# Altium integrated library N-Channel Dual FET Array.IntLib: 27 symbols
Pins are listed as number, name and electrical type; pins without a type are passive.

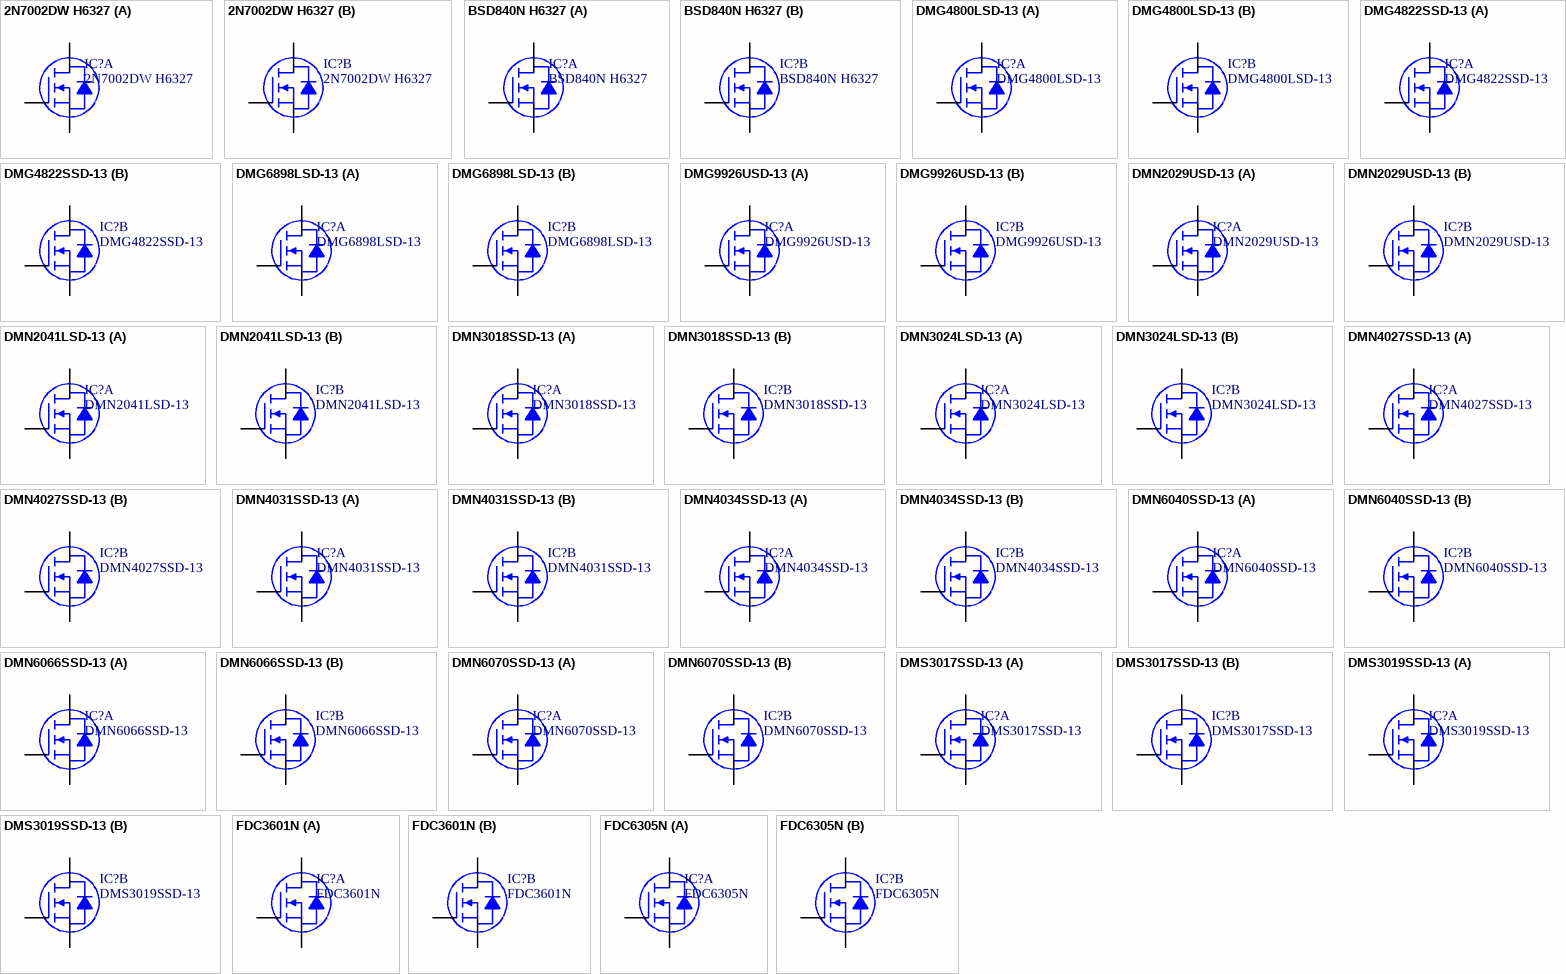
[diagram p0: symbols 2N7002DW H6327 to FDC6305N]

## 2N7002DW H6327
designator IC?
MOSFET 2N-CH 60V 0.3A SOT363; Manufacturer: Infineon Technologies; Rds On (Max) at Id, Vgs: 3 Ohm @ 500mA, 10V; Vgs(th) (Max) at Id: 2.5V @ 250uA; Gate Charge (Qg): 0.6nC @ 10V; Input Capacitance (Ciss) at Vds: 20pF @ 25V; Power - Max: 500mW; Current Continuous Drain: 300mA; Part Number: 2N7002DW H6327; PartId: 8156; Supplier 1: Digi-Key; Supplier Part Number 1: 2N7002DW H6327TR-ND; ComponentLink1Description: Datasheet; ComponentLink1URL: http://www.infineon.com/dgdl/2N7002DW_Rev2.2_.pdf?folderId=db3a3043156fd573011622e10b5c1f67&fileId=db3a30431a5c32f2011ad94ed41363f2; ComponentLink2Description: Digi-Key Listing; ComponentLink2URL: http://www.digikey.com/product-detail/en/2N7002DW%20H6327/2N7002DW%20H6327TR-ND/2783408; Price: 0.0519; Type: 2 N-Channel (Dual); Device Package: 6-VSSOP, SC-88, SOT-363; Drain to Source Voltage (Vdss): 60V; Features: Logic Level Gate
footprint INFINEON SOT-363
part A pins: 1 S1, 2 G1, 6 D1
part B pins: 3 D2, 4 S2, 5 G2

## BSD840N H6327
designator IC?
MOSFET 2N-CH 20V 0.88A SOT363; Manufacturer: Infineon Technologies; Rds On (Max) at Id, Vgs: 400 mOhm @ 880mA, 2.5V; Vgs(th) (Max) at Id: 750mV @ 1.6uA; Gate Charge (Qg): 0.26nC @ 2.5V; Input Capacitance (Ciss) at Vds: 78pF @ 10V; Power - Max: 500mW; Current Continuous Drain: 880mA; Part Number: BSD840N H6327; PartId: 8157; Supplier 1: Digi-Key; Supplier Part Number 1: BSD840N H6327TR-ND; ComponentLink1Description: Datasheet; ComponentLink1URL: http://www.infineon.com/dgdl/BSD840N_Rev2.3_.pdf?folderId=db3a3043156fd573011622e10b5c1f67&fileId=db3a30431b0626df011b12b4486c7c02; ComponentLink2Description: Digi-Key Listing; ComponentLink2URL: http://www.digikey.com/product-detail/en/BSD840N%20H6327/BSD840N%20H6327TR-ND/2783455; Price: 0.0712; Type: 2 N-Channel (Dual); Device Package: 6-VSSOP, SC-88, SOT-363; Drain to Source Voltage (Vdss): 20V; Features: Logic Level Gate
footprint INFINEON SOT-363
part A pins: 1 S1, 2 G1, 6 D1
part B pins: 3 D2, 4 S2, 5 G2

## DMG4800LSD-13
designator IC?
MOSFET 2N-CH 30V 7.5A 8SO; Manufacturer: Diodes Incorporated; Rds On (Max) at Id, Vgs: 16 mOhm @ 9A, 10V; Vgs(th) (Max) at Id: 1.6V @ 250uA; Gate Charge (Qg): 8.56nC @ 5V; Input Capacitance (Ciss) at Vds: 798pF @ 10V; Power - Max: 1.17W; Part Number: DMG4800LSD-13; PartId: 8142; Supplier 1: Digi-Key; Supplier Part Number 1: DMG4800LSD-13DITR-ND; ComponentLink1Description: Datasheet; ComponentLink1URL: http://www.diodes.com/_files/datasheets/ds31858.pdf; ComponentLink2Description: Digi-Key Listing; ComponentLink2URL: http://www.digikey.com/product-detail/en/DMG4800LSD-13/DMG4800LSD-13DITR-ND/2183250; Price: 0.186; Type: 2 N-Channel (Dual); Device Package: 8-SOIC (0.154", 3.90mm Width); Drain to Source Voltage (Vdss): 30V; Features: Logic Level Gate; Current Continuous Drain: 7.5A
footprint DIODES SO-8
part A pins: 1 S1, 2 G1, 7 D1, 8 D1
part B pins: 3 S2, 4 G2, 5 D2, 6 D2

## DMG4822SSD-13
designator IC?
MOSFET 2N-CH 30V 10A 8SO; Manufacturer: Diodes Incorporated; Rds On (Max) at Id, Vgs: 20 mOhm @ 8.5A, 10V; Vgs(th) (Max) at Id: 3V @ 250uA; Gate Charge (Qg): 10.5nC @ 10V; Input Capacitance (Ciss) at Vds: 478.9pF @ 16V; Power - Max: 1.42W; Part Number: DMG4822SSD-13; PartId: 8148; Supplier 1: Digi-Key; Supplier Part Number 1: DMG4822SSD-13DITR-ND; ComponentLink1Description: Datasheet; ComponentLink1URL: http://www.diodes.com/_files/datasheets/DMG4822SSD.pdf; ComponentLink2Description: Digi-Key Listing; ComponentLink2URL: http://www.digikey.com/product-detail/en/DMG4822SSD-13/DMG4822SSD-13DITR-ND/2756044; Price: 0.2356; Type: 2 N-Channel (Dual); Device Package: 8-SOIC (0.154", 3.90mm Width); Drain to Source Voltage (Vdss): 30V; Features: Logic Level Gate; Current Continuous Drain: 10A
footprint DIODES SO-8
part A pins: 1 S1, 2 G1, 7 D1, 8 D1
part B pins: 3 S2, 4 G2, 5 D2, 6 D2

## DMG6898LSD-13
designator IC?
MOSFET 2N-CH 20V 9.5A 8SO; Manufacturer: Diodes Incorporated; Rds On (Max) at Id, Vgs: 16 mOhm @ 9.4A, 4.5V; Vgs(th) (Max) at Id: 1.5V @ 250uA; Gate Charge (Qg): 26nC @ 10V; Input Capacitance (Ciss) at Vds: 1149pF @ 10V; Power - Max: 1.28W; Part Number: DMG6898LSD-13; PartId: 8149; Supplier 1: Digi-Key; Supplier Part Number 1: DMG6898LSD-13DITR-ND; ComponentLink1Description: Datasheet; ComponentLink1URL: http://www.diodes.com/_files/datasheets/ds31947.pdf; ComponentLink2Description: Digi-Key Listing; ComponentLink2URL: http://www.digikey.com/product-detail/en/DMG6898LSD-13/DMG6898LSD-13DITR-ND/2355952; Price: 0.261; Type: 2 N-Channel (Dual); Device Package: 8-SOIC (0.154", 3.90mm Width); Drain to Source Voltage (Vdss): 20V; Features: Logic Level Gate; Current Continuous Drain: 9.5A
footprint DIODES SO-8
part A pins: 1 S1, 2 G1, 7 D1, 8 D1
part B pins: 3 S2, 4 G2, 5 D2, 6 D2

## DMG9926USD-13
designator IC?
MOSFET 2N-CH 20V 8A SOP8L; Manufacturer: Diodes Incorporated; Rds On (Max) at Id, Vgs: 24 mOhm @ 8.2A, 4.5V; Vgs(th) (Max) at Id: 900mV @ 250uA; Gate Charge (Qg): 8.8nC @ 4.5V; Input Capacitance (Ciss) at Vds: 867pF @ 15V; Power - Max: 1.3W; Part Number: DMG9926USD-13; PartId: 8139; Supplier 1: Digi-Key; Supplier Part Number 1: DMG9926USD-13DITR-ND; ComponentLink1Description: Datasheet; ComponentLink1URL: http://www.diodes.com/_files/datasheets/ds31757.pdf; ComponentLink2Description: Digi-Key Listing; ComponentLink2URL: http://www.digikey.com/product-detail/en/DMG9926USD-13/DMG9926USD-13DITR-ND/2179801; Price: 0.155; Type: 2 N-Channel (Dual); Device Package: 8-SOIC (0.154", 3.90mm Width); Drain to Source Voltage (Vdss): 20V; Features: Logic Level Gate; Current Continuous Drain: 8A
footprint DIODES SO-8
part A pins: 1 S1, 2 G1, 7 D1, 8 D1
part B pins: 3 S2, 4 G2, 5 D2, 6 D2

## DMN2029USD-13
designator IC?
MOSFET 2N-CH 20V 5.8A 8SO; Manufacturer: Diodes Incorporated; Rds On (Max) at Id, Vgs: 25 mOhm @ 6.5A, 4.5V; Vgs(th) (Max) at Id: 1.5V @ 250uA; Gate Charge (Qg): 18.6nC @ 8V; Input Capacitance (Ciss) at Vds: 1171pF @ 10V; Power - Max: 1.2W; Part Number: DMN2029USD-13; PartId: 8137; Supplier 1: Digi-Key; Supplier Part Number 1: DMN2029USD-13DITR-ND; ComponentLink1Description: Datasheet; ComponentLink1URL: http://www.diodes.com/_files/datasheets/DMN2029USD.pdf; ComponentLink2Description: Digi-Key Listing; ComponentLink2URL: http://www.digikey.com/product-detail/en/DMN2029USD-13/DMN2029USD-13DITR-ND/4251609; Price: 0.1443; Type: 2 N-Channel (Dual); Device Package: 8-SOIC (0.154", 3.90mm Width); Drain to Source Voltage (Vdss): 20V; Features: Logic Level Gate; Current Continuous Drain: 5.8A
footprint DIODES SO-8
part A pins: 1 S1, 2 G1, 7 D1, 8 D1
part B pins: 3 S2, 4 G2, 5 D2, 6 D2

## DMN2041LSD-13
designator IC?
MOSFET 2N-CH 20V 7.63A 8SO; Manufacturer: Diodes Incorporated; Rds On (Max) at Id, Vgs: 28 mOhm @ 6A, 4.5V; Vgs(th) (Max) at Id: 1.2V @ 250uA; Gate Charge (Qg): 15.6nC @ 10V; Input Capacitance (Ciss) at Vds: 550pF @ 10V; Power - Max: 1.16W; Part Number: DMN2041LSD-13; PartId: 8140; Supplier 1: Digi-Key; Supplier Part Number 1: DMN2041LSD-13DITR-ND; ComponentLink1Description: Datasheet; ComponentLink1URL: http://www.diodes.com/_files/datasheets/ds31964.pdf; ComponentLink2Description: Digi-Key Listing; ComponentLink2URL: http://www.digikey.com/product-detail/en/DMN2041LSD-13/DMN2041LSD-13DITR-ND/2414255; Price: 0.1705; Type: 2 N-Channel (Dual); Device Package: 8-SOIC (0.154", 3.90mm Width); Drain to Source Voltage (Vdss): 20V; Features: Logic Level Gate; Current Continuous Drain: 7.63A
footprint DIODES SO-8
part A pins: 1 S1, 2 G1, 7 D1, 8 D1
part B pins: 3 S2, 4 G2, 5 D2, 6 D2

## DMN3018SSD-13
designator IC?
MOSFET 2N-CH 30V 6.7A 8SO; Manufacturer: Diodes Incorporated; Rds On (Max) at Id, Vgs: 22 mOhm @ 10A, 10V; Vgs(th) (Max) at Id: 2.1V @ 250uA; Gate Charge (Qg): 13.2nC @ 10V; Input Capacitance (Ciss) at Vds: 697pF @ 15V; Power - Max: 1.5W; Part Number: DMN3018SSD-13; PartId: 8141; Supplier 1: Digi-Key; Supplier Part Number 1: DMN3018SSD-13DITR-ND; ComponentLink1Description: Datasheet; ComponentLink1URL: http://www.diodes.com/_files/datasheets/DMN3018SSD.pdf; ComponentLink2Description: Digi-Key Listing; ComponentLink2URL: http://www.digikey.com/product-detail/en/DMN3018SSD-13/DMN3018SSD-13DITR-ND/3882073; Price: 0.1821; Type: 2 N-Channel (Dual); Device Package: 8-SOIC (0.154", 3.90mm Width); Drain to Source Voltage (Vdss): 30V; Features: Logic Level Gate; Current Continuous Drain: 6.7A
footprint DIODES SO-8
part A pins: 1 S1, 2 G1, 7 D1, 8 D1
part B pins: 3 S2, 4 G2, 5 D2, 6 D2

## DMN3024LSD-13
designator IC?
MOSFET 2N-CH 30V 6.8A 8SO; Manufacturer: Diodes Incorporated; Rds On (Max) at Id, Vgs: 24 mOhm @ 7A, 10V; Vgs(th) (Max) at Id: 3V @ 250uA; Gate Charge (Qg): 12.9nC @ 10V; Input Capacitance (Ciss) at Vds: 608pF @ 15V; Power - Max: 1.8W; Part Number: DMN3024LSD-13; PartId: 8145; Supplier 1: Digi-Key; Supplier Part Number 1: DMN3024LSD-13DITR-ND; ComponentLink1Description: Datasheet; ComponentLink1URL: http://www.diodes.com/_files/datasheets/DMN3024LSD.pdf; ComponentLink2Description: Digi-Key Listing; ComponentLink2URL: http://www.digikey.com/product-detail/en/DMN3024LSD-13/DMN3024LSD-13DITR-ND/2179807; Price: 0.217; Type: 2 N-Channel (Dual); Device Package: 8-SOIC (0.154", 3.90mm Width); Drain to Source Voltage (Vdss): 30V; Features: Logic Level Gate; Current Continuous Drain: 6.8A
footprint DIODES SO-8
part A pins: 1 S1, 2 G1, 7 D1, 8 D1
part B pins: 3 S2, 4 G2, 5 D2, 6 D2

## DMN4027SSD-13
designator IC?
MOSFET 2N-CH 40V 5.4A 8SO; Manufacturer: Diodes Incorporated; Rds On (Max) at Id, Vgs: 27 mOhm @ 7A, 10V; Vgs(th) (Max) at Id: 3V @ 250uA; Gate Charge (Qg): 12.9nC @ 10V; Input Capacitance (Ciss) at Vds: 604pF @ 20V; Power - Max: 1.8W; Part Number: DMN4027SSD-13; PartId: 8151; Supplier 1: Digi-Key; Supplier Part Number 1: DMN4027SSD-13TR-ND; ComponentLink1Description: Datasheet; ComponentLink1URL: http://www.diodes.com/_files/datasheets/DMN4027SSD.pdf; ComponentLink2Description: Digi-Key Listing; ComponentLink2URL: http://www.digikey.com/product-detail/en/DMN4027SSD-13/DMN4027SSD-13TR-ND/2295356; Price: 0.319; Type: 2 N-Channel (Dual); Device Package: 8-SOIC (0.154", 3.90mm Width); Drain to Source Voltage (Vdss): 40V; Features: Logic Level Gate; Current Continuous Drain: 5.4A
footprint DIODES SO-8
part A pins: 1 S1, 2 G1, 7 D1, 8 D1
part B pins: 3 S2, 4 G2, 5 D2, 6 D2

## DMN4031SSD-13
designator IC?
MOSFET 2N-CH 40V 5.2A 8SO; Manufacturer: Diodes Incorporated; Rds On (Max) at Id, Vgs: 31 mOhm @ 6A, 10V; Vgs(th) (Max) at Id: 3V @ 250uA; Gate Charge (Qg): 18.6nC @ 10V; Input Capacitance (Ciss) at Vds: 945pF @ 20V; Power - Max: 1.42W; Part Number: DMN4031SSD-13; PartId: 8144; Supplier 1: Digi-Key; Supplier Part Number 1: DMN4031SSD-13DITR-ND; ComponentLink1Description: Datasheet; ComponentLink1URL: http://www.diodes.com/_files/datasheets/DMN4031SSD.pdf; ComponentLink2Description: Digi-Key Listing; ComponentLink2URL: http://www.digikey.com/product-detail/en/DMN4031SSD-13/DMN4031SSD-13DITR-ND/2756039; Price: 0.1976; Type: 2 N-Channel (Dual); Device Package: 8-SOIC (0.154", 3.90mm Width); Drain to Source Voltage (Vdss): 40V; Features: Logic Level Gate; Current Continuous Drain: 5.2A
footprint DIODES SO-8
part A pins: 1 S1, 2 G1, 7 D1, 8 D1
part B pins: 3 S2, 4 G2, 5 D2, 6 D2

## DMN4034SSD-13
designator IC?
MOSFET 2N-CH 40V 4.8A 8SO; Manufacturer: Diodes Incorporated; Rds On (Max) at Id, Vgs: 34 mOhm @ 6A, 10V; Vgs(th) (Max) at Id: 3V @ 250uA; Gate Charge (Qg): 18nC @ 10V; Input Capacitance (Ciss) at Vds: 453pF @ 20V; Power - Max: 1.8W; Part Number: DMN4034SSD-13; PartId: 8150; Supplier 1: Digi-Key; Supplier Part Number 1: DMN4034SSD-13TR-ND; ComponentLink1Description: Datasheet; ComponentLink1URL: http://www.diodes.com/_files/datasheets/DMN4034SSD.pdf; ComponentLink2Description: Digi-Key Listing; ComponentLink2URL: http://www.digikey.com/product-detail/en/DMN4034SSD-13/DMN4034SSD-13TR-ND/2295358; Price: 0.319; Type: 2 N-Channel (Dual); Device Package: 8-SOIC (0.154", 3.90mm Width); Drain to Source Voltage (Vdss): 40V; Features: Logic Level Gate; Current Continuous Drain: 4.8A
footprint DIODES SO-8
part A pins: 1 S1, 2 G1, 7 D1, 8 D1
part B pins: 3 S2, 4 G2, 5 D2, 6 D2

## DMN6040SSD-13
designator IC?
MOSFET 2N-CH 60V 5A 8SO; Manufacturer: Diodes Incorporated; Rds On (Max) at Id, Vgs: 40 mOhm @ 4.5A, 10V; Vgs(th) (Max) at Id: 3V @ 250uA; Gate Charge (Qg): 22.4nC @ 10V; Input Capacitance (Ciss) at Vds: 1287pF @ 25V; Power - Max: 1.3W; Part Number: DMN6040SSD-13; PartId: 8138; Supplier 1: Digi-Key; Supplier Part Number 1: DMN6040SSD-13DITR-ND; ComponentLink1Description: Datasheet; ComponentLink1URL: http://www.diodes.com/_files/datasheets/DMN6040SSD.pdf; ComponentLink2Description: Digi-Key Listing; ComponentLink2URL: http://www.digikey.com/product-detail/en/DMN6040SSD-13/DMN6040SSD-13DITR-ND/3481129; Price: 0.1457; Type: 2 N-Channel (Dual); Device Package: 8-SOIC (0.154", 3.90mm Width); Drain to Source Voltage (Vdss): 60V; Features: Logic Level Gate; Current Continuous Drain: 5A
footprint DIODES SO-8
part A pins: 1 S1, 2 G1, 7 D1, 8 D1
part B pins: 3 S2, 4 G2, 5 D2, 6 D2

## DMN6066SSD-13
designator IC?
MOSFET 2N-CH 60V 3.3A 8SO; Manufacturer: Diodes Incorporated; Rds On (Max) at Id, Vgs: 66 mOhm @ 4.5A, 10V; Vgs(th) (Max) at Id: 3V @ 250uA; Gate Charge (Qg): 10.3nC @ 10V; Input Capacitance (Ciss) at Vds: 502pF @ 30V; Power - Max: 1.8W; Part Number: DMN6066SSD-13; PartId: 8152; Supplier 1: Digi-Key; Supplier Part Number 1: DMN6066SSD-13TR-ND; ComponentLink1Description: Datasheet; ComponentLink1URL: http://www.diodes.com/_files/datasheets/DMN6066SSD.pdf; ComponentLink2Description: Digi-Key Listing; ComponentLink2URL: http://www.digikey.com/product-detail/en/DMN6066SSD-13/DMN6066SSD-13TR-ND/2295360; Price: 0.348; Type: 2 N-Channel (Dual); Device Package: 8-SOIC (0.154", 3.90mm Width); Drain to Source Voltage (Vdss): 60V; Features: Logic Level Gate; Current Continuous Drain: 3.3A
footprint DIODES SO-8
part A pins: 1 S1, 2 G1, 7 D1, 8 D1
part B pins: 3 S2, 4 G2, 5 D2, 6 D2

## DMN6070SSD-13
designator IC?
MOSFET 2N-CH 60V 3.3A 8-SO; Manufacturer: Diodes Incorporated; Rds On (Max) at Id, Vgs: 80 mOhm @ 12A, 10V; Vgs(th) (Max) at Id: 3V @ 250uA; Gate Charge (Qg): 12.3nC @ 10V; Input Capacitance (Ciss) at Vds: 588pF @ 30V; Power - Max: 1.2W; Part Number: DMN6070SSD-13; PartId: 8143; Supplier 1: Digi-Key; Supplier Part Number 1: DMN6070SSD-13DITR-ND; ComponentLink1Description: Datasheet; ComponentLink1URL: http://www.diodes.com/_files/datasheets/DMN6070SSD.pdf; ComponentLink2Description: Digi-Key Listing; ComponentLink2URL: http://www.digikey.com/product-detail/en/DMN6070SSD-13/DMN6070SSD-13DITR-ND/4457871; Price: 0.186; Type: 2 N-Channel (Dual); Device Package: 8-SOIC (0.154", 3.90mm Width); Drain to Source Voltage (Vdss): 60V; Features: Logic Level Gate; Current Continuous Drain: 3.3A
footprint DIODES SO-8
part A pins: 1 S1, 2 G1, 7 D1, 8 D1
part B pins: 3 S2, 4 G2, 5 D2, 6 D2

## DMS3017SSD-13
designator IC?
MOSFET 2N-CH 30V 8A/6A 8SO; Manufacturer: Diodes Incorporated; Rds On (Max) at Id, Vgs: 12 mOhm @ 9.5A, 10V; Vgs(th) (Max) at Id: 2.5V @ 250uA; Gate Charge (Qg): 30.6nC @ 10V; Input Capacitance (Ciss) at Vds: 1276pF @ 15V; Power - Max: 1.19W; Current Continuous Drain: 8A, 6A; Part Number: DMS3017SSD-13; PartId: 8147; Supplier 1: Digi-Key; Supplier Part Number 1: DMS3017SSD-13DITR-ND; ComponentLink1Description: Datasheet; ComponentLink1URL: http://www.diodes.com/_files/datasheets/DMS3017SSD.pdf; ComponentLink2Description: Digi-Key Listing; ComponentLink2URL: http://www.digikey.com/product-detail/en/DMS3017SSD-13/DMS3017SSD-13DITR-ND/2510663; Price: 0.2247; Type: 2 N-Channel (Dual); Device Package: 8-SOIC (0.154", 3.90mm Width); Drain to Source Voltage (Vdss): 30V; Features: Logic Level Gate
footprint DIODES SO-8
part A pins: 1 S1, 2 G1, 7 D1, 8 D1
part B pins: 3 S2, 4 G2, 5 D2, 6 D2

## DMS3019SSD-13
designator IC?
MOSFET 2N-CH 30V 7A/5.7A 8SO; Manufacturer: Diodes Incorporated; Rds On (Max) at Id, Vgs: 15 mOhm @ 9A, 10V; Vgs(th) (Max) at Id: 2.4V @ 250uA; Gate Charge (Qg): 42nC @ 10V; Input Capacitance (Ciss) at Vds: 1932pF @ 15V; Power - Max: 1.19W; Current Continuous Drain: 7A, 5.7A; Part Number: DMS3019SSD-13; PartId: 8146; Supplier 1: Digi-Key; Supplier Part Number 1: DMS3019SSD-13DITR-ND; ComponentLink1Description: Datasheet; ComponentLink1URL: http://www.diodes.com/_files/datasheets/DMS3019SSD.pdf; ComponentLink2Description: Digi-Key Listing; ComponentLink2URL: http://www.digikey.com/product-detail/en/DMS3019SSD-13/DMS3019SSD-13DITR-ND/2510664; Price: 0.2175; Type: 2 N-Channel (Dual); Device Package: 8-SOIC (0.154", 3.90mm Width); Drain to Source Voltage (Vdss): 30V; Features: Logic Level Gate
footprint DIODES SO-8
part A pins: 1 S1, 2 G1, 7 D1, 8 D1
part B pins: 3 S2, 4 G2, 5 D2, 6 D2

## FDC3601N
designator IC?
MOSFET 2N-CH 100V 1A SSOT-6; Manufacturer: Fairchild Semiconductor; Rds On (Max) at Id, Vgs: 500 mOhm @ 1A, 10V; Vgs(th) (Max) at Id: 4V @ 250uA; Gate Charge (Qg): 5nC @ 10V; Input Capacitance (Ciss) at Vds: 153pF @ 50V; Power - Max: 700mW; Part Number: FDC3601N; PartId: 9695; Supplier 1: Digi-Key; Supplier Part Number 1: FDC3601NTR-ND; ComponentLink1Description: Datasheet; ComponentLink1URL: http://www.fairchildsemi.com/datasheets/FD/FDC3601N.pdf; ComponentLink2Description: Digi-Key Listing; ComponentLink2URL: https://www.digikey.com/product-detail/en/FDC3601N/FDC3601NTR-ND/979780; Price: 0.2104; Type: 2 N-Channel (Dual); Device Package: SOT-23-6 Thin, TSOT-23-6; Drain to Source Voltage (Vdss): 100V; Features: Logic Level Gate; Current Continuous Drain: 1A
footprint FAIRCHILD SOT-23-6 SuperSOT-6
part A pins: 1 G1, 5 S1, 6 D1
part B pins: 2 S2, 3 G2, 4 D2

## FDC6305N
designator IC?
MOSFET 2N-CH 20V 2.7A SSOT6; Manufacturer: Fairchild Semiconductor; Rds On (Max) at Id, Vgs: 80 mOhm @ 2.7A, 4.5V; Vgs(th) (Max) at Id: 1.5V @ 250uA; Gate Charge (Qg): 5nC @ 4.5V; Input Capacitance (Ciss) at Vds: 310pF @ 10V; Power - Max: 700mW; Part Number: FDC6305N; PartId: 9692; Supplier 1: Digi-Key; Supplier Part Number 1: FDC6305NTR-ND; ComponentLink1Description: Datasheet; ComponentLink1URL: http://www.fairchildsemi.com/datasheets/FD/FDC6305N.pdf; ComponentLink2Description: Digi-Key Listing; ComponentLink2URL: https://www.digikey.com/product-detail/en/FDC6305N/FDC6305NTR-ND/965281; Price: 0.1546; Type: 2 N-Channel (Dual); Device Package: SOT-23-6 Thin, TSOT-23-6; Drain to Source Voltage (Vdss): 20V; Features: Logic Level Gate; Current Continuous Drain: 2.7A
footprint FAIRCHILD SOT-23-6 SuperSOT-6
part A pins: 1 G1, 5 S1, 6 D1
part B pins: 2 S2, 3 G2, 4 D2

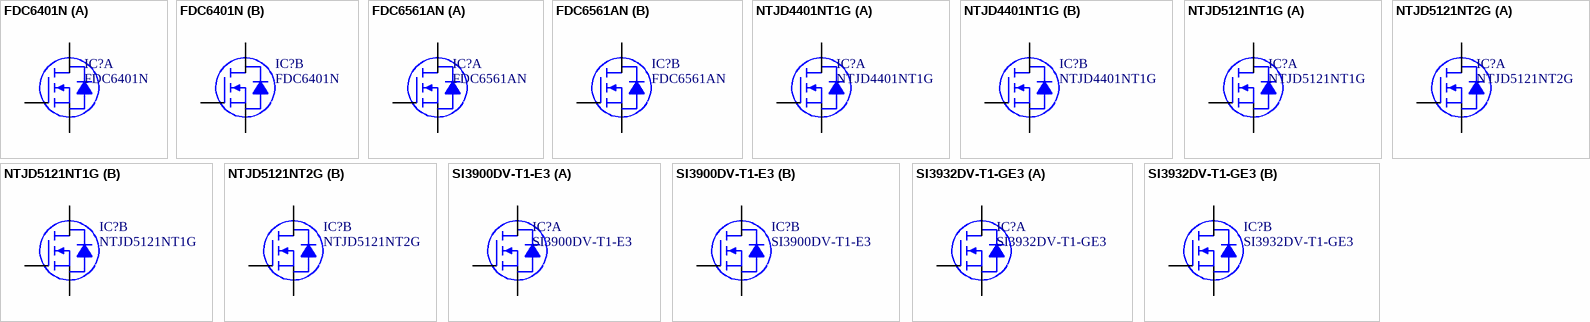
[diagram p1: symbols FDC6401N to SI3932DV-T1-GE3]

## FDC6401N
designator IC?
MOSFET 2N-CH 20V 3A SSOT-6; Manufacturer: Fairchild Semiconductor; Rds On (Max) at Id, Vgs: 70 mOhm @ 3A, 4.5V; Vgs(th) (Max) at Id: 1.5V @ 250uA; Gate Charge (Qg): 4.6nC @ 4.5V; Input Capacitance (Ciss) at Vds: 324pF @ 10V; Power - Max: 700mW; Part Number: FDC6401N; PartId: 9693; Supplier 1: Digi-Key; Supplier Part Number 1: FDC6401NTR-ND; ComponentLink1Description: Datasheet; ComponentLink1URL: http://www.fairchildsemi.com/datasheets/FD/FDC6401N.pdf; ComponentLink2Description: Digi-Key Listing; ComponentLink2URL: https://www.digikey.com/product-detail/en/FDC6401N/FDC6401NTR-ND/979803; Price: 0.1658; Type: 2 N-Channel (Dual); Device Package: SOT-23-6 Thin, TSOT-23-6; Drain to Source Voltage (Vdss): 20V; Features: Logic Level Gate; Current Continuous Drain: 3A
footprint FAIRCHILD SOT-23-6 SuperSOT-6
part A pins: 1 G1, 5 S1, 6 D1
part B pins: 2 S2, 3 G2, 4 D2

## FDC6561AN
designator IC?
MOSFET 2N-CH 30V 2.5A SSOT6; Manufacturer: Fairchild Semiconductor; Rds On (Max) at Id, Vgs: 95 mOhm @ 2.5A, 10V; Vgs(th) (Max) at Id: 3V @ 250uA; Gate Charge (Qg): 3.2nC @ 5V; Input Capacitance (Ciss) at Vds: 220pF @ 15V; Power - Max: 700mW; Part Number: FDC6561AN; PartId: 9694; Supplier 1: Digi-Key; Supplier Part Number 1: FDC6561ANTR-ND; ComponentLink1Description: Datasheet; ComponentLink1URL: http://www.fairchildsemi.com/datasheets/FD/FDC6561AN.pdf; ComponentLink2Description: Digi-Key Listing; ComponentLink2URL: https://www.digikey.com/product-detail/en/FDC6561AN/FDC6561ANTR-ND/965289; Price: 0.2035; Type: 2 N-Channel (Dual); Device Package: SOT-23-6 Thin, TSOT-23-6; Drain to Source Voltage (Vdss): 30V; Features: Logic Level Gate; Current Continuous Drain: 2.5A
footprint FAIRCHILD SOT-23-6 SuperSOT-6
part A pins: 1 G1, 5 S1, 6 D1
part B pins: 2 S2, 3 G2, 4 D2

## NTJD4401NT1G
designator IC?
MOSFET 2N-CH 20V 0.63A SOT-363; Manufacturer: ON Semiconductor; Rds On (Max) at Id, Vgs: 375 mOhm @ 630mA, 4.5V; Vgs(th) (Max) at Id: 1.5V @ 250uA; Gate Charge (Qg): 3nC @ 4.5V; Input Capacitance (Ciss) at Vds: 46pF @ 20V; Power - Max: 270mW; Current Continuous Drain: 630mA; Part Number: NTJD4401NT1G; PartId: 8155; Supplier 1: Digi-Key; Supplier Part Number 1: NTJD4401NT1GOSTR-ND; ComponentLink1Description: Datasheet; ComponentLink1URL: http://www.onsemi.com/pub_link/Collateral/NTJD4401N-D.PDF; ComponentLink2Description: Digi-Key Listing; ComponentLink2URL: http://www.digikey.com/product-detail/en/NTJD4401NT1G/NTJD4401NT1GOSTR-ND/661400; Price: 0.1072; Type: 2 N-Channel (Dual); Device Package: 6-TSSOP, SC-88, SOT-363; Drain to Source Voltage (Vdss): 20V; Features: Logic Level Gate
footprint ON SEMI SOT-363
part A pins: 1 S1, 2 G1, 6 D1
part B pins: 3 D2, 4 S2, 5 G2

## NTJD5121NT1G
designator IC?
MOSFET 2N-CH 60V 0.295A SOT363; Manufacturer: ON Semiconductor; Rds On (Max) at Id, Vgs: 1.6 Ohm @ 500mA, 10V; Vgs(th) (Max) at Id: 2.5V @ 250uA; Gate Charge (Qg): 0.9nC @ 4.5V; Input Capacitance (Ciss) at Vds: 26pF @ 20V; Power - Max: 250mW; Current Continuous Drain: 295mA; Part Number: NTJD5121NT1G; PartId: 8153; Supplier 1: Digi-Key; Supplier Part Number 1: NTJD5121NT1GOSTR-ND; ComponentLink1Description: Datasheet; ComponentLink1URL: http://www.onsemi.com/pub_link/Collateral/NTJD5121N-D.PDF; ComponentLink2Description: Digi-Key Listing; ComponentLink2URL: http://www.digikey.com/product-detail/en/NTJD5121NT1G/NTJD5121NT1GOSTR-ND/1853671; Price: 0.0515; Type: 2 N-Channel (Dual); Device Package: 6-TSSOP, SC-88, SOT-363; Drain to Source Voltage (Vdss): 60V; Features: Logic Level Gate
footprint ON SEMI SOT-363
part A pins: 1 S1, 2 G1, 6 D1
part B pins: 3 D2, 4 S2, 5 G2

## NTJD5121NT2G
designator IC?
MOSFET 2N-CH 60V 0.295A SOT363; Manufacturer: ON Semiconductor; Rds On (Max) at Id, Vgs: 1.6 Ohm @ 500mA, 10V; Vgs(th) (Max) at Id: 2.5V @ 250uA; Gate Charge (Qg): 0.9nC @ 4.5V; Input Capacitance (Ciss) at Vds: 26pF @ 20V; Power - Max: 250mW; Current Continuous Drain: 295mA; Part Number: NTJD5121NT2G; PartId: 8154; Supplier 1: Digi-Key; Supplier Part Number 1: NTJD5121NT2GOSTR-ND; ComponentLink1Description: Datasheet; ComponentLink1URL: http://www.onsemi.com/pub_link/Collateral/NTJD5121N-D.PDF; ComponentLink2Description: Digi-Key Listing; ComponentLink2URL: http://www.digikey.com/product-detail/en/NTJD5121NT2G/NTJD5121NT2GOSTR-ND/2194168; Price: 0.081; Type: 2 N-Channel (Dual); Device Package: 6-TSSOP, SC-88, SOT-363; Drain to Source Voltage (Vdss): 60V; Features: Logic Level Gate
footprint ON SEMI SOT-363
part A pins: 1 S1, 2 G1, 6 D1
part B pins: 3 D2, 4 S2, 5 G2

## SI3900DV-T1-E3
designator IC?
MOSFET 2N-CH 20V 2A 6-TSOP; Manufacturer: Vishay Siliconix; Rds On (Max) at Id, Vgs: 125 mOhm @ 2.4A, 4.5V; Vgs(th) (Max) at Id: 1.5V @ 250uA; Gate Charge (Qg): 4nC @ 4.5V; Power - Max: 830mW; Part Number: SI3900DV-T1-E3; PartId: 9691; Supplier 1: Digi-Key; Supplier Part Number 1: SI3900DV-T1-E3TR-ND; ComponentLink1Description: Datasheet; ComponentLink1URL: http://www.vishay.com/docs/71178/71178.pdf; ComponentLink2Description: Digi-Key Listing; ComponentLink2URL: https://www.digikey.com/product-detail/en/SI3900DV-T1-E3/SI3900DV-T1-E3TR-ND/1656399; Price: 0.2232; Type: 2 N-Channel (Dual); Device Package: SOT-23-6 Thin, TSOT-23-6; Drain to Source Voltage (Vdss): 20V; Features: Logic Level Gate; Current Continuous Drain: 2A
footprint VISHAY TSOP-6 MO-193C
part A pins: 1 G1, 5 S1, 6 D1
part B pins: 2 S2, 3 G2, 4 D2

## SI3932DV-T1-GE3
designator IC?
MOSFET 2N-CH 30V 3.7A 6-TSOP; Manufacturer: Vishay Siliconix; Rds On (Max) at Id, Vgs: 58 mOhm @ 3.4A, 10V; Vgs(th) (Max) at Id: 2.2V @ 250uA; Gate Charge (Qg): 6nC @ 10V; Input Capacitance (Ciss) at Vds: 235pF @ 15V; Power - Max: 1.4W; Part Number: SI3932DV-T1-GE3; PartId: 9690; Supplier 1: Digi-Key; Supplier Part Number 1: SI3932DV-T1-GE3TR-ND; ComponentLink1Description: Datasheet; ComponentLink1URL: http://www.vishay.com/docs/65736/si3932dv.pdf; ComponentLink2Description: Digi-Key Listing; ComponentLink2URL: https://www.digikey.com/product-detail/en/SI3932DV-T1-GE3/SI3932DV-T1-GE3TR-ND/2441617; Price: 0.2175; Type: 2 N-Channel (Dual); Device Package: SOT-23-6 Thin, TSOT-23-6; Drain to Source Voltage (Vdss): 30V; Features: Logic Level Gate; Current Continuous Drain: 3.7A
footprint VISHAY TSOP-6 MO-193C
part A pins: 1 G1, 5 S1, 6 D1
part B pins: 2 S2, 3 G2, 4 D2